# EAGLE library part CON_SERVOS_8 (library joby_robotics)
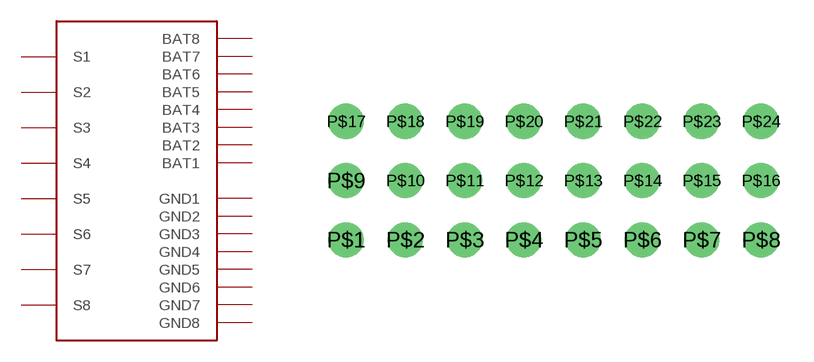
[diagram p2: symbol with the pads of CON_SERVOS_8; footprint CON_SERVOS_8]

Designator prefix -

## CON_SERVOS_8  [CON_SERVOS_8]
P$1  GND1
P$2  GND2
P$3  GND3
P$4  GND4
P$5  GND5
P$6  GND6
P$7  GND7
P$8  GND8
P$9  BAT1
P$10  BAT2
P$11  BAT3
P$12  BAT4
P$13  BAT5
P$14  BAT6
P$15  BAT7
P$16  BAT8
P$17  S1
P$18  S2
P$19  S3
P$20  S4
P$21  S5
P$22  S6
P$23  S7
P$24  S8

## Footprint CON_SERVOS_8 (pad centres in mm)
drill 1: P$1 -8.89,-3.81; P$2 -6.35,-3.81; P$3 -3.81,-3.81; P$4 -1.27,-3.81; P$5 1.27,-3.81; P$6 3.81,-3.81; P$7 6.35,-3.81; P$8 8.89,-3.81; P$9 -8.89,-1.27; P$10 -6.35,-1.27; P$11 -3.81,-1.27; P$12 -1.27,-1.27; P$13 1.27,-1.27; P$14 3.81,-1.27; P$15 6.35,-1.27; P$16 8.89,-1.27; P$17 -8.89,1.27; P$18 -6.35,1.27; P$19 -3.81,1.27; P$20 -1.27,1.27; P$21 1.27,1.27; P$22 3.81,1.27; P$23 6.35,1.27; P$24 8.89,1.27